# Altium footprint library CN_HDR2x20_1.27MM.PcbLib: 1 footprints
Each footprint in its own frame and in the unit in brackets; x right, y up, seen from the top. Pads: shape width x height; smd on the part's side, far side on the other; paste and mask are expansions set on the pad; w line width, h text height; cw(c..) or ccw(c..) is an arc to the next point about the centre after c.
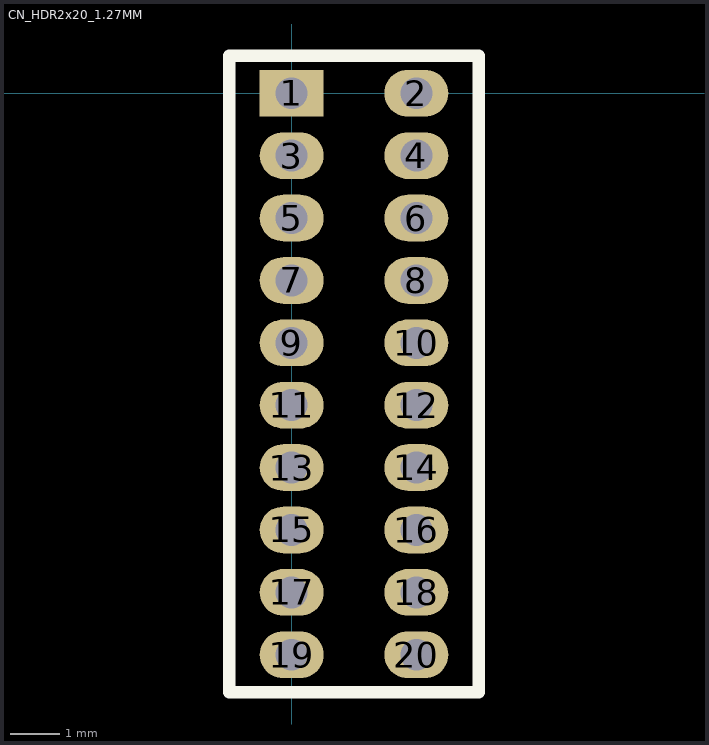
[diagram p0: the footprint, top view; thin cyan lines are the x and y axes]

## CN_HDR2x20_1.27MM [mm]
pads (20):
  rect 1.3x0.95 hole 0.65: 1(0,0)
  oval 1.3x0.95 hole 0.65: 2(2.54,0) 3(0,-1.27) 4(2.54,-1.27) 5(0,-2.54) 6(2.54,-2.54) 7(0,-3.81) 8(2.54,-3.81) 9(0,-5.08) 10(2.54,-5.08) 11(0,-6.35) 12(2.54,-6.35) 13(0,-7.62) 14(2.54,-7.62) 15(0,-8.89) 16(2.54,-8.89) 17(0,-10.16) 18(2.54,-10.16) 19(0,-11.43) 20(2.54,-11.43)
Top Overlay:
  lines w0.254: -1.27,-12.192 -1.27,0.762 3.81,0.762 3.81,-12.192 -1.27,-12.192
3D body: height 6.5, standoff -2.3, extent -1.25,-12.065 3.75,0.635